# EAGLE library part 46010-0622 (library 46010-0622)
Mini-Fit Plus PCB Receptacle, 4.20mm Pitch, Dual Row, Vertical, Blind Mating, 6 Circuits, with Snap-in Plastic Peg PCB Lock, PA Polyamide Nylon 6/6, UL 94V-2 Source: Datasheet <https://componentsearchengine.com/Datasheets/1/46010-0622.pdf>
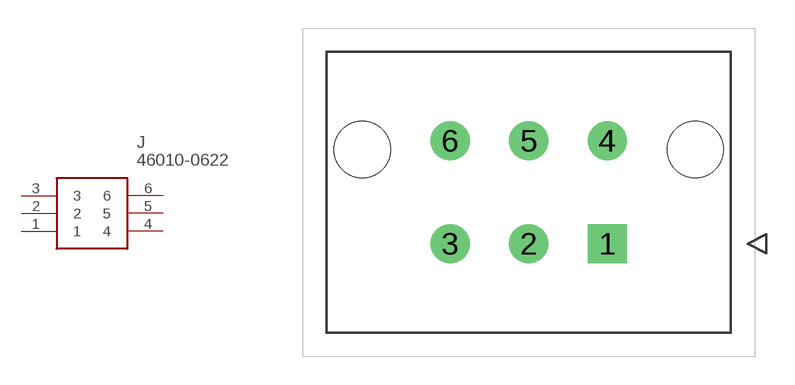
[diagram p0: symbol with the pads of 46010-06YY; footprint 46010-06YY]

Designator prefix J

## 46010-0622 (Description: Mini-Fit Plus PCB Receptacle, 4.20mm Pitch, Dual Row, Vertical, Blind Mating, 6 Circuits, with Snap-in Plastic Peg PCB Lock, PA Polyamide Nylon 6/6, UL 94V-2; Height: 14.1mm; Manufacturer_Name: Molex; Manufacturer_Part_Number: 46010-0622; Mouser_Part_Number: 538-46010-0622; Mouser_Price-Stock: https://www.mouser.com/Search/Refine.aspx?Keyword=538-46010-0622)  [46010-06YY]
1  1
2  2
3  3
4  4
5  5
6  6

## Footprint 46010-06YY (pad centres in mm)
46010-06YY
drill 1.4 pad 1.75 square: 1 0,0
drill 1.4 pad 1.75: 2 -4.2,0; 3 -8.4,0; 4 0,5.5; 5 -4.2,5.5; 6 -8.4,5.5
hole 3 at 4.7,5.04
hole 3 at -13.1,5.04